# EAGLE library part DRV134 (library Liu-Ford-ACP-AUX)
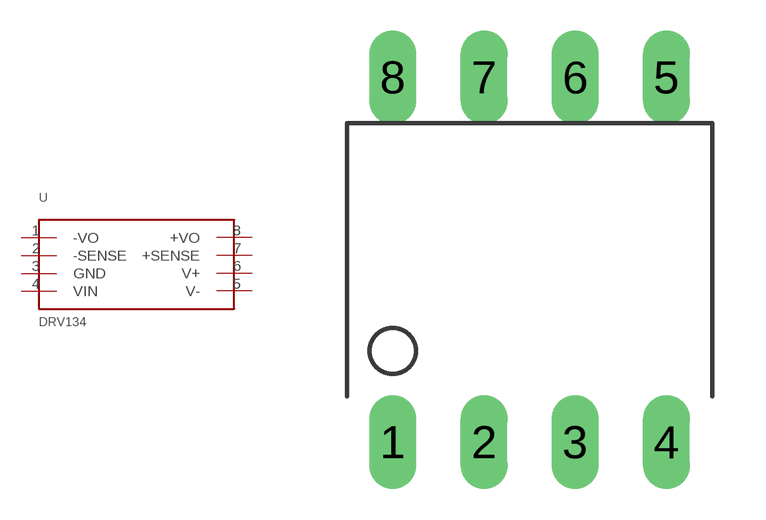
[diagram p4: symbol with the pads of DIP-8; footprint DIP-8]

Designator prefix -

## DRV134DIP-8  [DIP-8]
1  -VO  out
2  -SENSE  in
3  GND  pas
4  VIN  in
5  V-  pwr
6  V+  pwr
7  +SENSE  in
8  +VO  out

## Footprint DIP-8 (pad centres in mm)
8DIP P (R-PDIP-T8), 2.54mm, 8 pins
drill 0.8 long: 1 -2.54,-5.08; 2 0,-5.08; 3 2.54,-5.08; 4 5.08,-5.08; 5 5.08,5.08; 6 2.54,5.08; 7 0,5.08; 8 -2.54,5.08